# Altium footprint library WA-SMSI.PcbLib: 89 footprints (part 5 of 6)
Each footprint in its own frame and in the unit in brackets; x right, y up, seen from the top. Pads: shape width x height; smd on the part's side, far side on the other; paste and mask are expansions set on the pad; w line width, h text height; cw(c..) or ccw(c..) is an arc to the next point about the centre after c.
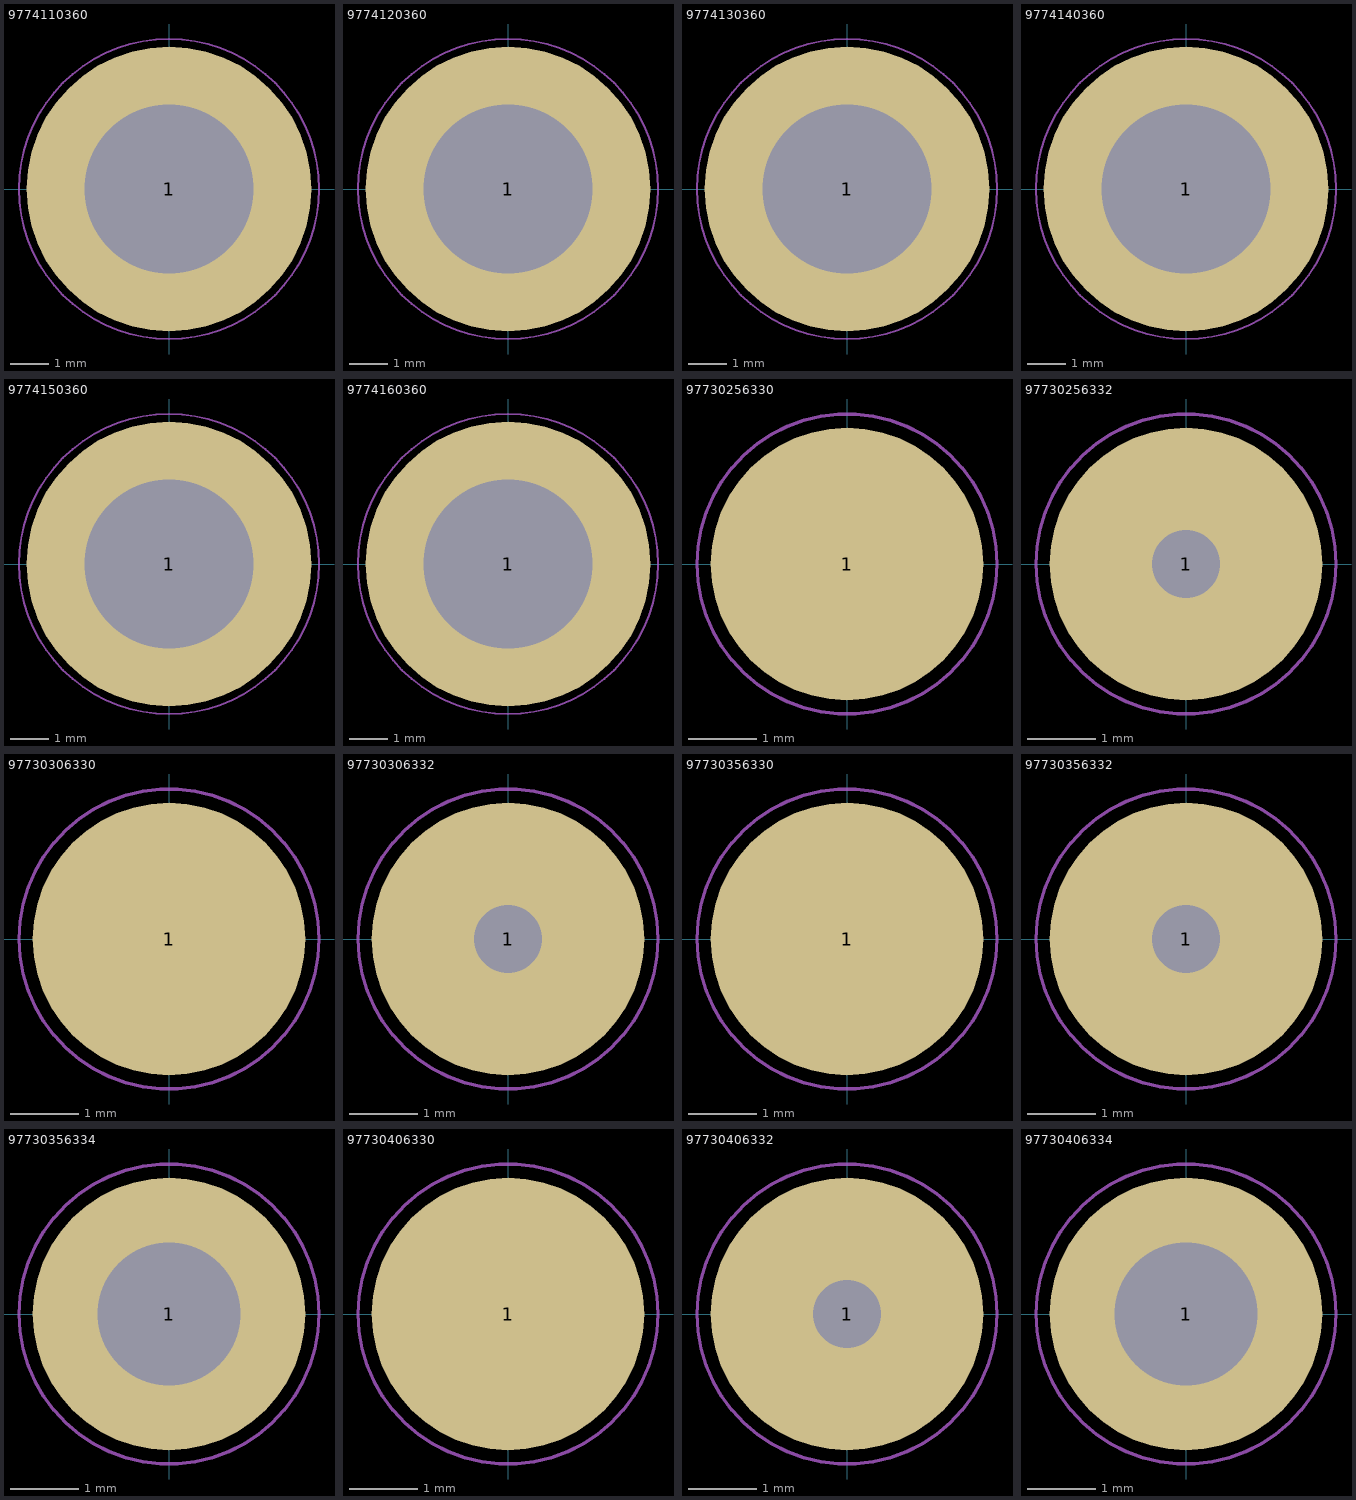
[diagram p4: the footprints below, top view; thin cyan lines are the x and y axes]

## 9774110360 [mm] "SMT Steel Spacer with internal Thread M3, height 11mm"
height 11
pads (1):
  round 7.4 / inner round 0 / far side round 0 hole 4.4 unplated: 1(0,0)
Top Paste:
  region: -3.613,0.4 -2.204,0.4 -2.167,0.566 -2.057,0.886 -1.9,1.186 -1.699,1.46 -1.46,1.699 -1.186,1.9 -0.886,2.057 -0.566,2.167 -0.4,2.204 -0.4,3.613 -0.603,3.59 -1.003,3.5 -1.389,3.365 -1.758,3.188 -2.105,2.97 -2.425,2.715 -2.715,2.426 -2.97,2.106 -3.188,1.759 -3.365,1.39 -3.5,1.003 -3.59,0.604 -3.613,0.4
  region: -0.4,-3.613 -0.4,-2.204 -0.566,-2.167 -0.886,-2.057 -1.186,-1.9 -1.46,-1.699 -1.699,-1.46 -1.9,-1.186 -2.057,-0.886 -2.167,-0.566 -2.204,-0.4 -3.613,-0.4 -3.59,-0.603 -3.5,-1.003 -3.365,-1.389 -3.188,-1.758 -2.97,-2.105 -2.715,-2.425 -2.426,-2.715 -2.106,-2.97 -1.759,-3.188 -1.39,-3.365 -1.003,-3.5 -0.604,-3.59 -0.4,-3.613
  region: 3.613,-0.4 2.204,-0.4 2.167,-0.566 2.057,-0.886 1.9,-1.186 1.699,-1.46 1.46,-1.699 1.186,-1.9 0.886,-2.057 0.566,-2.167 0.4,-2.204 0.4,-3.613 0.603,-3.59 1.003,-3.5 1.389,-3.365 1.758,-3.188 2.105,-2.97 2.425,-2.715 2.715,-2.426 2.97,-2.106 3.188,-1.759 3.365,-1.39 3.5,-1.003 3.59,-0.604 3.613,-0.4
  region: 0.4,3.613 0.4,2.204 0.566,2.167 0.886,2.057 1.186,1.9 1.46,1.699 1.699,1.46 1.9,1.186 2.057,0.886 2.167,0.566 2.204,0.4 3.613,0.4 3.59,0.603 3.5,1.003 3.365,1.389 3.188,1.758 2.97,2.105 2.715,2.425 2.426,2.715 2.106,2.97 1.759,3.188 1.39,3.365 1.003,3.5 0.604,3.59 0.4,3.613
Top Designator:
  text ".Designator" at -7.498,-0.5 h1.5
Top Component Outline:
  circle w0.1: c0,0 r3
Top 3D Body:
  circle w0.1: c0,0 r3
Top Courtyard:
  circle w0.05: c0,0 r3.9
  lines w0.05: -0.5,0 0.5,0 ; 0,-0.5 0,0.5
3D body "9774110360.stp": height 11, standoff -1.4, extent -3,-3 3,3

## 9774120360 [mm] "SMT Steel Spacer with internal Thread M3, height 12mm"
height 12
pads (1):
  round 7.4 / inner round 0 / far side round 0 hole 4.4 unplated: 1(0,0)
Top Paste:
  region: -3.613,0.4 -2.204,0.4 -2.167,0.566 -2.057,0.886 -1.9,1.186 -1.699,1.46 -1.46,1.699 -1.186,1.9 -0.886,2.057 -0.566,2.167 -0.4,2.204 -0.4,3.613 -0.603,3.59 -1.003,3.5 -1.389,3.365 -1.758,3.188 -2.105,2.97 -2.425,2.715 -2.715,2.426 -2.97,2.106 -3.188,1.759 -3.365,1.39 -3.5,1.003 -3.59,0.604 -3.613,0.4
  region: -0.4,-3.613 -0.4,-2.204 -0.566,-2.167 -0.886,-2.057 -1.186,-1.9 -1.46,-1.699 -1.699,-1.46 -1.9,-1.186 -2.057,-0.886 -2.167,-0.566 -2.204,-0.4 -3.613,-0.4 -3.59,-0.603 -3.5,-1.003 -3.365,-1.389 -3.188,-1.758 -2.97,-2.105 -2.715,-2.425 -2.426,-2.715 -2.106,-2.97 -1.759,-3.188 -1.39,-3.365 -1.003,-3.5 -0.604,-3.59 -0.4,-3.613
  region: 3.613,-0.4 2.204,-0.4 2.167,-0.566 2.057,-0.886 1.9,-1.186 1.699,-1.46 1.46,-1.699 1.186,-1.9 0.886,-2.057 0.566,-2.167 0.4,-2.204 0.4,-3.613 0.603,-3.59 1.003,-3.5 1.389,-3.365 1.758,-3.188 2.105,-2.97 2.425,-2.715 2.715,-2.426 2.97,-2.106 3.188,-1.759 3.365,-1.39 3.5,-1.003 3.59,-0.604 3.613,-0.4
  region: 0.4,3.613 0.4,2.204 0.566,2.167 0.886,2.057 1.186,1.9 1.46,1.699 1.699,1.46 1.9,1.186 2.057,0.886 2.167,0.566 2.204,0.4 3.613,0.4 3.59,0.603 3.5,1.003 3.365,1.389 3.188,1.758 2.97,2.105 2.715,2.425 2.426,2.715 2.106,2.97 1.759,3.188 1.39,3.365 1.003,3.5 0.604,3.59 0.4,3.613
Top Designator:
  text ".Designator" at -7.498,-0.5 h1.5
Top Component Outline:
  circle w0.1: c0,0 r3
Top 3D Body:
  circle w0.1: c0,0 r3
Top Courtyard:
  circle w0.05: c0,0 r3.9
  lines w0.05: -0.5,0 0.5,0 ; 0,-0.5 0,0.5
3D body "9774120360.stp": height 12, standoff -1.4, extent -3,-3 3,3

## 9774130360 [mm] "SMT Steel Spacer with internal Thread M3, height 13mm"
height 13
pads (1):
  round 7.4 / inner round 0 / far side round 0 hole 4.4 unplated: 1(0,0)
Top Paste:
  region: 0.4,3.613 0.4,2.204 0.566,2.167 0.886,2.057 1.186,1.9 1.46,1.699 1.699,1.46 1.9,1.186 2.057,0.886 2.167,0.566 2.204,0.4 3.613,0.4 3.59,0.603 3.5,1.003 3.365,1.389 3.188,1.758 2.97,2.105 2.715,2.425 2.426,2.715 2.106,2.97 1.759,3.188 1.39,3.365 1.003,3.5 0.604,3.59 0.4,3.613
  region: 3.613,-0.4 2.204,-0.4 2.167,-0.566 2.057,-0.886 1.9,-1.186 1.699,-1.46 1.46,-1.699 1.186,-1.9 0.886,-2.057 0.566,-2.167 0.4,-2.204 0.4,-3.613 0.603,-3.59 1.003,-3.5 1.389,-3.365 1.758,-3.188 2.105,-2.97 2.425,-2.715 2.715,-2.426 2.97,-2.106 3.188,-1.759 3.365,-1.39 3.5,-1.003 3.59,-0.604 3.613,-0.4
  region: -0.4,-3.613 -0.4,-2.204 -0.566,-2.167 -0.886,-2.057 -1.186,-1.9 -1.46,-1.699 -1.699,-1.46 -1.9,-1.186 -2.057,-0.886 -2.167,-0.566 -2.204,-0.4 -3.613,-0.4 -3.59,-0.603 -3.5,-1.003 -3.365,-1.389 -3.188,-1.758 -2.97,-2.105 -2.715,-2.425 -2.426,-2.715 -2.106,-2.97 -1.759,-3.188 -1.39,-3.365 -1.003,-3.5 -0.604,-3.59 -0.4,-3.613
  region: -3.613,0.4 -2.204,0.4 -2.167,0.566 -2.057,0.886 -1.9,1.186 -1.699,1.46 -1.46,1.699 -1.186,1.9 -0.886,2.057 -0.566,2.167 -0.4,2.204 -0.4,3.613 -0.603,3.59 -1.003,3.5 -1.389,3.365 -1.758,3.188 -2.105,2.97 -2.425,2.715 -2.715,2.426 -2.97,2.106 -3.188,1.759 -3.365,1.39 -3.5,1.003 -3.59,0.604 -3.613,0.4
Top Designator:
  text ".Designator" at -7.498,-0.5 h1.5
Top Component Outline:
  circle w0.1: c0,0 r3
Top 3D Body:
  circle w0.1: c0,0 r3
Top Courtyard:
  circle w0.05: c0,0 r3.9
  lines w0.05: -0.5,0 0.5,0 ; 0,-0.5 0,0.5
3D body "9774130360.stp": height 13, standoff -1.4, extent -3,-3 3,3

## 9774140360 [mm] "SMT Steel Spacer with internal Thread M3, height 14mm"
height 14
pads (1):
  round 7.4 / inner round 0 / far side round 0 hole 4.4 unplated: 1(0,0)
Top Paste:
  region: -3.613,0.4 -2.204,0.4 -2.167,0.566 -2.057,0.886 -1.9,1.186 -1.699,1.46 -1.46,1.699 -1.186,1.9 -0.886,2.057 -0.566,2.167 -0.4,2.204 -0.4,3.613 -0.603,3.59 -1.003,3.5 -1.389,3.365 -1.758,3.188 -2.105,2.97 -2.425,2.715 -2.715,2.426 -2.97,2.106 -3.188,1.759 -3.365,1.39 -3.5,1.003 -3.59,0.604 -3.613,0.4
  region: -0.4,-3.613 -0.4,-2.204 -0.566,-2.167 -0.886,-2.057 -1.186,-1.9 -1.46,-1.699 -1.699,-1.46 -1.9,-1.186 -2.057,-0.886 -2.167,-0.566 -2.204,-0.4 -3.613,-0.4 -3.59,-0.603 -3.5,-1.003 -3.365,-1.389 -3.188,-1.758 -2.97,-2.105 -2.715,-2.425 -2.426,-2.715 -2.106,-2.97 -1.759,-3.188 -1.39,-3.365 -1.003,-3.5 -0.604,-3.59 -0.4,-3.613
  region: 3.613,-0.4 2.204,-0.4 2.167,-0.566 2.057,-0.886 1.9,-1.186 1.699,-1.46 1.46,-1.699 1.186,-1.9 0.886,-2.057 0.566,-2.167 0.4,-2.204 0.4,-3.613 0.603,-3.59 1.003,-3.5 1.389,-3.365 1.758,-3.188 2.105,-2.97 2.425,-2.715 2.715,-2.426 2.97,-2.106 3.188,-1.759 3.365,-1.39 3.5,-1.003 3.59,-0.604 3.613,-0.4
  region: 0.4,3.613 0.4,2.204 0.566,2.167 0.886,2.057 1.186,1.9 1.46,1.699 1.699,1.46 1.9,1.186 2.057,0.886 2.167,0.566 2.204,0.4 3.613,0.4 3.59,0.603 3.5,1.003 3.365,1.389 3.188,1.758 2.97,2.105 2.715,2.425 2.426,2.715 2.106,2.97 1.759,3.188 1.39,3.365 1.003,3.5 0.604,3.59 0.4,3.613
Top Designator:
  text ".Designator" at -7.498,-0.5 h1.5
Top Component Outline:
  circle w0.1: c0,0 r3
Top 3D Body:
  circle w0.1: c0,0 r3
Top Courtyard:
  circle w0.05: c0,0 r3.9
  lines w0.05: -0.5,0 0.5,0 ; 0,-0.5 0,0.5
3D body "9774140360.stp": height 14, standoff -1.4, extent -3,-3 3,3

## 9774150360 [mm] "SMT Steel Spacer with internal Thread M3, height 15mm"
height 15
pads (1):
  round 7.4 / inner round 0 / far side round 0 hole 4.4 unplated: 1(0,0)
Top Paste:
  region: -3.613,0.4 -2.204,0.4 -2.167,0.566 -2.057,0.886 -1.9,1.186 -1.699,1.46 -1.46,1.699 -1.186,1.9 -0.886,2.057 -0.566,2.167 -0.4,2.204 -0.4,3.613 -0.603,3.59 -1.003,3.5 -1.389,3.365 -1.758,3.188 -2.105,2.97 -2.425,2.715 -2.715,2.426 -2.97,2.106 -3.188,1.759 -3.365,1.39 -3.5,1.003 -3.59,0.604 -3.613,0.4
  region: -0.4,-3.613 -0.4,-2.204 -0.566,-2.167 -0.886,-2.057 -1.186,-1.9 -1.46,-1.699 -1.699,-1.46 -1.9,-1.186 -2.057,-0.886 -2.167,-0.566 -2.204,-0.4 -3.613,-0.4 -3.59,-0.603 -3.5,-1.003 -3.365,-1.389 -3.188,-1.758 -2.97,-2.105 -2.715,-2.425 -2.426,-2.715 -2.106,-2.97 -1.759,-3.188 -1.39,-3.365 -1.003,-3.5 -0.604,-3.59 -0.4,-3.613
  region: 3.613,-0.4 2.204,-0.4 2.167,-0.566 2.057,-0.886 1.9,-1.186 1.699,-1.46 1.46,-1.699 1.186,-1.9 0.886,-2.057 0.566,-2.167 0.4,-2.204 0.4,-3.613 0.603,-3.59 1.003,-3.5 1.389,-3.365 1.758,-3.188 2.105,-2.97 2.425,-2.715 2.715,-2.426 2.97,-2.106 3.188,-1.759 3.365,-1.39 3.5,-1.003 3.59,-0.604 3.613,-0.4
  region: 0.4,3.613 0.4,2.204 0.566,2.167 0.886,2.057 1.186,1.9 1.46,1.699 1.699,1.46 1.9,1.186 2.057,0.886 2.167,0.566 2.204,0.4 3.613,0.4 3.59,0.603 3.5,1.003 3.365,1.389 3.188,1.758 2.97,2.105 2.715,2.425 2.426,2.715 2.106,2.97 1.759,3.188 1.39,3.365 1.003,3.5 0.604,3.59 0.4,3.613
Top Designator:
  text ".Designator" at -7.498,-0.5 h1.5
Top Component Outline:
  circle w0.1: c0,0 r3
Top 3D Body:
  circle w0.1: c0,0 r3
Top Courtyard:
  circle w0.05: c0,0 r3.9
  lines w0.05: -0.5,0 0.5,0 ; 0,-0.5 0,0.5
3D body "9774150360.stp": height 15, standoff -1.4, extent -3,-3 3,3

## 9774160360 [mm] "SMT Steel Spacer with internal Thread M3, height 16mm"
height 16
pads (1):
  round 7.4 / inner round 0 / far side round 0 hole 4.4 unplated: 1(0,0)
Top Paste:
  region: 0.4,3.613 0.4,2.204 0.566,2.167 0.886,2.057 1.186,1.9 1.46,1.699 1.699,1.46 1.9,1.186 2.057,0.886 2.167,0.566 2.204,0.4 3.613,0.4 3.59,0.603 3.5,1.003 3.365,1.389 3.188,1.758 2.97,2.105 2.715,2.425 2.426,2.715 2.106,2.97 1.759,3.188 1.39,3.365 1.003,3.5 0.604,3.59 0.4,3.613
  region: 3.613,-0.4 2.204,-0.4 2.167,-0.566 2.057,-0.886 1.9,-1.186 1.699,-1.46 1.46,-1.699 1.186,-1.9 0.886,-2.057 0.566,-2.167 0.4,-2.204 0.4,-3.613 0.603,-3.59 1.003,-3.5 1.389,-3.365 1.758,-3.188 2.105,-2.97 2.425,-2.715 2.715,-2.426 2.97,-2.106 3.188,-1.759 3.365,-1.39 3.5,-1.003 3.59,-0.604 3.613,-0.4
  region: -0.4,-3.613 -0.4,-2.204 -0.566,-2.167 -0.886,-2.057 -1.186,-1.9 -1.46,-1.699 -1.699,-1.46 -1.9,-1.186 -2.057,-0.886 -2.167,-0.566 -2.204,-0.4 -3.613,-0.4 -3.59,-0.603 -3.5,-1.003 -3.365,-1.389 -3.188,-1.758 -2.97,-2.105 -2.715,-2.425 -2.426,-2.715 -2.106,-2.97 -1.759,-3.188 -1.39,-3.365 -1.003,-3.5 -0.604,-3.59 -0.4,-3.613
  region: -3.613,0.4 -2.204,0.4 -2.167,0.566 -2.057,0.886 -1.9,1.186 -1.699,1.46 -1.46,1.699 -1.186,1.9 -0.886,2.057 -0.566,2.167 -0.4,2.204 -0.4,3.613 -0.603,3.59 -1.003,3.5 -1.389,3.365 -1.758,3.188 -2.105,2.97 -2.425,2.715 -2.715,2.426 -2.97,2.106 -3.188,1.759 -3.365,1.39 -3.5,1.003 -3.59,0.604 -3.613,0.4
Top Designator:
  text ".Designator" at -7.498,-0.5 h1.5
Top Component Outline:
  circle w0.1: c0,0 r3
Top 3D Body:
  circle w0.1: c0,0 r3
Top Courtyard:
  circle w0.05: c0,0 r3.9
  lines w0.05: -0.5,0 0.5,0 ; 0,-0.5 0,0.5
3D body "9774160360.stp": height 16, standoff -1.4, extent -3,-3 3,3

## 97730256330 [mm] "SMT Steel Spacer with internal Thread M1.6 Bottom closed, height 2.5mm"
height 2.5
pads (1):
  round 4 smd paste-2539.97: 1(0,0)
Top Paste:
  region: 0.15,1.894 0.15,0.15 1.894,0.15 1.881,0.318 1.796,0.643 1.655,0.949 1.463,1.224 1.225,1.462 0.949,1.655 0.643,1.796 0.318,1.881 0.15,1.894
  region: 1.894,-0.15 0.15,-0.15 0.15,-1.894 0.318,-1.881 0.643,-1.796 0.949,-1.655 1.224,-1.463 1.462,-1.225 1.655,-0.949 1.796,-0.643 1.881,-0.318 1.894,-0.15
  region: -0.15,-1.894 -0.15,-0.15 -1.894,-0.15 -1.881,-0.318 -1.796,-0.643 -1.655,-0.949 -1.463,-1.224 -1.225,-1.462 -0.949,-1.655 -0.643,-1.796 -0.318,-1.881 -0.15,-1.894
  region: -1.894,0.15 -0.15,0.15 -0.15,1.894 -0.318,1.881 -0.643,1.796 -0.949,1.655 -1.224,1.463 -1.462,1.225 -1.655,0.949 -1.796,0.643 -1.881,0.318 -1.894,0.15
Top Designator:
  text ".Designator" at -5.998,-0.4 h1.2
Top Component Outline:
  circle w0.1: c0,0 r1.65
Top 3D Body:
  circle w0.1: c0,0 r1.65
Top Courtyard:
  circle w0.05: c0,0 r2.2
  lines w0.05: -0.5,0 0.5,0 ; 0,-0.5 0,0.5
3D body "97730256330.stp": height 2.5, standoff 0, extent -1.65,-1.649 1.65,1.65

## 97730256332 [mm] "SMT Steel Spacer with internal Thread M1.6 with Pin, height 2.5mm"
height 2.5
pads (1):
  round 4 / inner rect 0x0 / far side rect 0x0 hole 1 unplated: 1(0,0)
Top Paste:
  region: 0.55,-1.819 0.744,-1.76 1.099,-1.563 1.405,-1.295 1.647,-0.969 1.814,-0.6 1.9,-0.203 1.9,0.203 1.814,0.6 1.647,0.969 1.405,1.295 1.099,1.563 0.744,1.76 0.55,1.819 0.55,0.24 0.572,0.182 0.597,0.062 0.597,-0.062 0.572,-0.182 0.55,-0.24
  region: -0.55,-1.819 -0.744,-1.76 -1.099,-1.563 -1.405,-1.295 -1.647,-0.969 -1.814,-0.6 -1.9,-0.203 -1.9,0.203 -1.814,0.6 -1.647,0.969 -1.405,1.295 -1.099,1.563 -0.744,1.76 -0.55,1.819 -0.55,0.24 -0.572,0.182 -0.597,0.062 -0.597,-0.062 -0.572,-0.182 -0.55,-0.24
Top Designator:
  text ".Designator" at -5.998,-0.4 h1.2
Top Component Outline:
  circle w0.1: c0,0 r1.65
Top 3D Body:
  circle w0.1: c0,0 r1.65
Top Courtyard:
  circle w0.05: c0,0 r2.2
  lines w0.05: -0.5,0 0.5,0 ; 0,-0.5 0,0.5
3D body "97730256332.stp": height 2.5, standoff -0.5, extent -1.65,-1.649 1.65,1.65

## 97730306330 [mm] "SMT Steel Spacer with internal Thread M1.6 Bottom closed, height 3mm"
height 3
pads (1):
  round 4 smd paste-2539.97: 1(0,0)
Top Paste:
  region: -1.894,0.15 -0.15,0.15 -0.15,1.894 -0.318,1.881 -0.643,1.796 -0.949,1.655 -1.224,1.463 -1.462,1.225 -1.655,0.949 -1.796,0.643 -1.881,0.318 -1.894,0.15
  region: -0.15,-1.894 -0.15,-0.15 -1.894,-0.15 -1.881,-0.318 -1.796,-0.643 -1.655,-0.949 -1.463,-1.224 -1.225,-1.462 -0.949,-1.655 -0.643,-1.796 -0.318,-1.881 -0.15,-1.894
  region: 1.894,-0.15 0.15,-0.15 0.15,-1.894 0.318,-1.881 0.643,-1.796 0.949,-1.655 1.224,-1.463 1.462,-1.225 1.655,-0.949 1.796,-0.643 1.881,-0.318 1.894,-0.15
  region: 0.15,1.894 0.15,0.15 1.894,0.15 1.881,0.318 1.796,0.643 1.655,0.949 1.463,1.224 1.225,1.462 0.949,1.655 0.643,1.796 0.318,1.881 0.15,1.894
Top Designator:
  text ".Designator" at -5.998,-0.4 h1.2
Top Component Outline:
  circle w0.1: c0,0 r1.65
Top 3D Body:
  circle w0.1: c0,0 r1.65
Top Courtyard:
  circle w0.05: c0,0 r2.2
  lines w0.05: -0.5,0 0.5,0 ; 0,-0.5 0,0.5
3D body "97730306330.stp": height 3, standoff 0, extent -1.65,-1.649 1.65,1.65

## 97730306332 [mm] "SMT Steel Spacer with internal Thread M1.6 with Pin, height 3mm"
height 3
pads (1):
  round 4 / inner rect 0x0 / far side rect 0x0 hole 1 unplated: 1(0,0)
Top Paste:
  region: -0.55,-1.819 -0.744,-1.76 -1.099,-1.563 -1.405,-1.295 -1.647,-0.969 -1.814,-0.6 -1.9,-0.203 -1.9,0.203 -1.814,0.6 -1.647,0.969 -1.405,1.295 -1.099,1.563 -0.744,1.76 -0.55,1.819 -0.55,0.24 -0.572,0.182 -0.597,0.062 -0.597,-0.062 -0.572,-0.182 -0.55,-0.24
  region: 0.55,-1.819 0.744,-1.76 1.099,-1.563 1.405,-1.295 1.647,-0.969 1.814,-0.6 1.9,-0.203 1.9,0.203 1.814,0.6 1.647,0.969 1.405,1.295 1.099,1.563 0.744,1.76 0.55,1.819 0.55,0.24 0.572,0.182 0.597,0.062 0.597,-0.062 0.572,-0.182 0.55,-0.24
Top Designator:
  text ".Designator" at -5.998,-0.4 h1.2
Top Component Outline:
  circle w0.1: c0,0 r1.65
Top 3D Body:
  circle w0.1: c0,0 r1.65
Top Courtyard:
  circle w0.05: c0,0 r2.2
  lines w0.05: -0.5,0 0.5,0 ; 0,-0.5 0,0.5
3D body "97730306332.stp": height 3, standoff -0.5, extent -1.65,-1.649 1.65,1.65

## 97730356330 [mm] "SMT Steel Spacer with internal Thread M1.6 Bottom closed, height 3.5mm"
height 3.5
pads (1):
  round 4 smd paste-2539.97: 1(0,0)
Top Paste:
  region: -1.894,0.15 -0.15,0.15 -0.15,1.894 -0.318,1.881 -0.643,1.796 -0.949,1.655 -1.224,1.463 -1.462,1.225 -1.655,0.949 -1.796,0.643 -1.881,0.318 -1.894,0.15
  region: -0.15,-1.894 -0.15,-0.15 -1.894,-0.15 -1.881,-0.318 -1.796,-0.643 -1.655,-0.949 -1.463,-1.224 -1.225,-1.462 -0.949,-1.655 -0.643,-1.796 -0.318,-1.881 -0.15,-1.894
  region: 1.894,-0.15 0.15,-0.15 0.15,-1.894 0.318,-1.881 0.643,-1.796 0.949,-1.655 1.224,-1.463 1.462,-1.225 1.655,-0.949 1.796,-0.643 1.881,-0.318 1.894,-0.15
  region: 0.15,1.894 0.15,0.15 1.894,0.15 1.881,0.318 1.796,0.643 1.655,0.949 1.463,1.224 1.225,1.462 0.949,1.655 0.643,1.796 0.318,1.881 0.15,1.894
Top Designator:
  text ".Designator" at -5.998,-0.4 h1.2
Top Component Outline:
  circle w0.1: c0,0 r1.65
Top 3D Body:
  circle w0.1: c0,0 r1.65
Top Courtyard:
  circle w0.05: c0,0 r2.2
  lines w0.05: -0.5,0 0.5,0 ; 0,-0.5 0,0.5
3D body "97730356330.stp": height 3.5, standoff 0, extent -1.65,-1.649 1.65,1.65

## 97730356332 [mm] "SMT Steel Spacer with internal Thread M1.6 with Pin, height 3.5mm"
height 3.5
pads (1):
  round 4 / inner rect 0x0 / far side rect 0x0 hole 1 unplated: 1(0,0)
Top Paste:
  region: -0.55,-1.819 -0.744,-1.76 -1.099,-1.563 -1.405,-1.295 -1.647,-0.969 -1.814,-0.6 -1.9,-0.203 -1.9,0.203 -1.814,0.6 -1.647,0.969 -1.405,1.295 -1.099,1.563 -0.744,1.76 -0.55,1.819 -0.55,0.24 -0.572,0.182 -0.597,0.062 -0.597,-0.062 -0.572,-0.182 -0.55,-0.24
  region: 0.55,-1.819 0.744,-1.76 1.099,-1.563 1.405,-1.295 1.647,-0.969 1.814,-0.6 1.9,-0.203 1.9,0.203 1.814,0.6 1.647,0.969 1.405,1.295 1.099,1.563 0.744,1.76 0.55,1.819 0.55,0.24 0.572,0.182 0.597,0.062 0.597,-0.062 0.572,-0.182 0.55,-0.24
Top Designator:
  text ".Designator" at -5.998,-0.4 h1.2
Top Component Outline:
  circle w0.1: c0,0 r1.65
Top 3D Body:
  circle w0.1: c0,0 r1.65
Top Courtyard:
  circle w0.05: c0,0 r2.2
  lines w0.05: -0.5,0 0.5,0 ; 0,-0.5 0,0.5
3D body "97730356332.stp": height 3.5, standoff -0.5, extent -1.65,-1.647 1.65,1.647

## 97730356334 [mm] "SMT Steel Spacer with internal Thread M1.6, height 3.5mm"
height 3.5
pads (1):
  round 4 / inner rect 0x0 / far side rect 0x0 hole 2.1 unplated: 1(0,0)
Top Paste:
  region: -1.889,0.2 -1.872,0.361 -1.784,0.673 -1.645,0.965 -1.458,1.229 -1.229,1.458 -0.965,1.645 -0.673,1.784 -0.361,1.872 -0.2,1.889 -0.2,1.082 -0.36,1.039 -0.652,0.886 -0.886,0.652 -1.039,0.36 -1.082,0.2
  region: -0.2,-1.889 -0.361,-1.872 -0.673,-1.784 -0.965,-1.645 -1.229,-1.458 -1.458,-1.229 -1.645,-0.965 -1.784,-0.673 -1.872,-0.361 -1.889,-0.2 -1.082,-0.2 -1.039,-0.36 -0.886,-0.652 -0.652,-0.886 -0.36,-1.039 -0.2,-1.082
  region: 1.889,-0.2 1.872,-0.361 1.784,-0.673 1.645,-0.965 1.458,-1.229 1.229,-1.458 0.965,-1.645 0.673,-1.784 0.361,-1.872 0.2,-1.889 0.2,-1.082 0.36,-1.039 0.652,-0.886 0.886,-0.652 1.039,-0.36 1.082,-0.2
  region: 0.2,1.889 0.361,1.872 0.673,1.784 0.965,1.645 1.229,1.458 1.458,1.229 1.645,0.965 1.784,0.673 1.872,0.361 1.889,0.2 1.082,0.2 1.039,0.36 0.886,0.652 0.652,0.886 0.36,1.039 0.2,1.082
Top Designator:
  text ".Designator" at -5.998,-0.4 h1.2
Top Component Outline:
  circle w0.1: c0,0 r1.65
Top 3D Body:
  circle w0.1: c0,0 r1.65
Top Courtyard:
  circle w0.05: c0,0 r2.2
  lines w0.05: -0.5,0 0.5,0 ; 0,-0.5 0,0.5
3D body "97730356334.stp": height 3.5, standoff -0.7, extent -1.65,-1.65 1.65,1.65

## 97730406330 [mm] "SMT Steel Spacer with internal Thread M1.6 Bottom closed, height 4mm"
height 4
pads (1):
  round 4 smd paste-2539.97: 1(0,0)
Top Paste:
  region: -1.894,0.15 -0.15,0.15 -0.15,1.894 -0.318,1.881 -0.643,1.796 -0.949,1.655 -1.224,1.463 -1.462,1.225 -1.655,0.949 -1.796,0.643 -1.881,0.318 -1.894,0.15
  region: -0.15,-1.894 -0.15,-0.15 -1.894,-0.15 -1.881,-0.318 -1.796,-0.643 -1.655,-0.949 -1.463,-1.224 -1.225,-1.462 -0.949,-1.655 -0.643,-1.796 -0.318,-1.881 -0.15,-1.894
  region: 1.894,-0.15 0.15,-0.15 0.15,-1.894 0.318,-1.881 0.643,-1.796 0.949,-1.655 1.224,-1.463 1.462,-1.225 1.655,-0.949 1.796,-0.643 1.881,-0.318 1.894,-0.15
  region: 0.15,1.894 0.15,0.15 1.894,0.15 1.881,0.318 1.796,0.643 1.655,0.949 1.463,1.224 1.225,1.462 0.949,1.655 0.643,1.796 0.318,1.881 0.15,1.894
Top Designator:
  text ".Designator" at -5.998,-0.4 h1.2
Top Component Outline:
  circle w0.1: c0,0 r1.65
Top 3D Body:
  circle w0.1: c0,0 r1.65
Top Courtyard:
  circle w0.05: c0,0 r2.2
  lines w0.05: -0.5,0 0.5,0 ; 0,-0.5 0,0.5
3D body "97730406330.stp": height 4, standoff 0, extent -1.65,-1.649 1.65,1.65

## 97730406332 [mm] "SMT Steel Spacer with internal Thread M1.6 with Pin, height 4mm"
height 4
pads (1):
  round 4 / inner rect 0x0 / far side rect 0x0 hole 1 unplated: 1(0,0)
Top Paste:
  region: -0.55,-1.819 -0.744,-1.76 -1.099,-1.563 -1.405,-1.295 -1.647,-0.969 -1.814,-0.6 -1.9,-0.203 -1.9,0.203 -1.814,0.6 -1.647,0.969 -1.405,1.295 -1.099,1.563 -0.744,1.76 -0.55,1.819 -0.55,0.24 -0.572,0.182 -0.597,0.062 -0.597,-0.062 -0.572,-0.182 -0.55,-0.24
  region: 0.55,-1.819 0.744,-1.76 1.099,-1.563 1.405,-1.295 1.647,-0.969 1.814,-0.6 1.9,-0.203 1.9,0.203 1.814,0.6 1.647,0.969 1.405,1.295 1.099,1.563 0.744,1.76 0.55,1.819 0.55,0.24 0.572,0.182 0.597,0.062 0.597,-0.062 0.572,-0.182 0.55,-0.24
Top Designator:
  text ".Designator" at -5.998,-0.4 h1.2
Top Component Outline:
  circle w0.1: c0,0 r1.65
Top 3D Body:
  circle w0.1: c0,0 r1.65
Top Courtyard:
  circle w0.05: c0,0 r2.2
  lines w0.05: -0.5,0 0.5,0 ; 0,-0.5 0,0.5
3D body "97730406332.stp": height 4, standoff -0.5, extent -1.65,-1.65 1.65,1.65

## 97730406334 [mm] "SMT Steel Spacer with internal Thread M1.6, height 4mm"
height 4
pads (1):
  round 4 / inner rect 0x0 / far side rect 0x0 hole 2.1 unplated: 1(0,0)
Top Paste:
  region: 0.2,1.889 0.361,1.872 0.673,1.784 0.965,1.645 1.229,1.458 1.458,1.229 1.645,0.965 1.784,0.673 1.872,0.361 1.889,0.2 1.082,0.2 1.039,0.36 0.886,0.652 0.652,0.886 0.36,1.039 0.2,1.082
  region: 1.889,-0.2 1.872,-0.361 1.784,-0.673 1.645,-0.965 1.458,-1.229 1.229,-1.458 0.965,-1.645 0.673,-1.784 0.361,-1.872 0.2,-1.889 0.2,-1.082 0.36,-1.039 0.652,-0.886 0.886,-0.652 1.039,-0.36 1.082,-0.2
  region: -0.2,-1.889 -0.361,-1.872 -0.673,-1.784 -0.965,-1.645 -1.229,-1.458 -1.458,-1.229 -1.645,-0.965 -1.784,-0.673 -1.872,-0.361 -1.889,-0.2 -1.082,-0.2 -1.039,-0.36 -0.886,-0.652 -0.652,-0.886 -0.36,-1.039 -0.2,-1.082
  region: -1.889,0.2 -1.872,0.361 -1.784,0.673 -1.645,0.965 -1.458,1.229 -1.229,1.458 -0.965,1.645 -0.673,1.784 -0.361,1.872 -0.2,1.889 -0.2,1.082 -0.36,1.039 -0.652,0.886 -0.886,0.652 -1.039,0.36 -1.082,0.2
Top Designator:
  text ".Designator" at -5.998,-0.4 h1.2
Top Component Outline:
  circle w0.1: c0,0 r1.65
Top 3D Body:
  circle w0.1: c0,0 r1.65
Top Courtyard:
  circle w0.05: c0,0 r2.2
  lines w0.05: -0.5,0 0.5,0 ; 0,-0.5 0,0.5
3D body "97730406334.stp": height 4, standoff -0.7, extent -1.65,-1.65 1.65,1.65